# Altium schematic symbol library ov5640.SCHLIB: 14 symbols
Pins are listed as number, name and electrical type; pins without a type are passive.

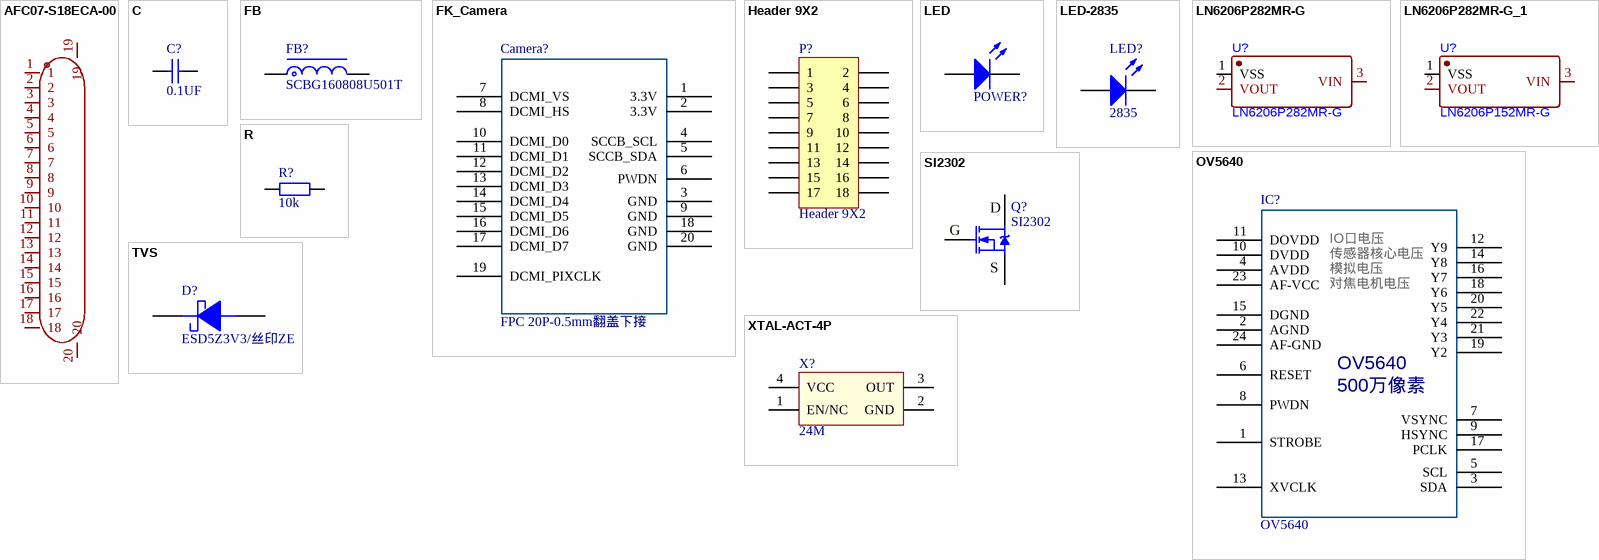
[diagram p0: symbols AFC07-S18ECA-00 to XTAL-ACT-4P]

## AFC07-S18ECA-00
designator X?  (value not drawn)
footprint FPC-SMD_AFC07-S18ECA-00
pins: 1, 2, 3, 4, 5, 6, 7, 8, 9, 10, 11, 12, 13, 14, 15, 16, 17, 18, 19, 20

## C
designator C?, comment 0.1UF
贴片电容/MLCC电容
footprint C0603_L (贴片MLCC电容)
pins: 1, 2

## FB
designator FB?, comment SCBG160808U501T
贴片磁珠
footprint FB0603 (0603贴片磁珠)
pins: 1, 2

## FK_Camera
designator Camera?, comment FPC 20P-0.5mm翻盖下接
footprint FPC20P-0.5MM
pins: 1 3.3V, 2 3.3V, 3 GND, 4 SCCB_SCL, 5 SCCB_SDA, 6 PWDN, 7 DCMI_VS, 8 DCMI_HS, 9 GND, 10 DCMI_D0, 11 DCMI_D1, 12 DCMI_D2, 13 DCMI_D3, 14 DCMI_D4, 15 DCMI_D5, 16 DCMI_D6, 17 DCMI_D7, 18 GND, 19 DCMI_PIXCLK, 20 GND

## Header 9X2
designator P?
Header, 9-Pin, Dual row
footprint HDR2X9 (Connector; Header; 9x2 Position)
pins: 1, 2, 3, 4, 5, 6, 7, 8, 9, 10, 11, 12, 13, 14, 15, 16, 17, 18

## LED
designator POWER?  (value not drawn)
footprint D0603
pins: 1 A, 2 K

## LED-2835
designator LED?, comment 2835
0.2W 功率LED
footprint LED 2835-2P
pins: 1 A, 2 K

## LN6206P282MR-G
designator U?
footprint SOT-23-3_L2.9-W1.3-P1.90-LS2.4-BR
pins: 1 VSS, 2 VOUT, 3 VIN

## LN6206P282MR-G_1
designator U?, comment LN6206P152MR-G
footprint SOT-23-3_L2.9-W1.3-P1.90-LS2.4-BR
pins: 1 VSS, 2 VOUT, 3 VIN

## OV5640
designator IC?
footprint OV2640
pins: 1 STROBE, 2 AGND, 3 SDA, 4 AVDD, 5 SCL, 6 RESET, 7 VSYNC, 8 PWDN, 9 HSYNC, 10 DVDD, 11 DOVDD, 12 Y9, 13 XVCLK, 14 Y8, 15 DGND, 16 Y7, 17 PCLK, 18 Y6, 19 Y2, 20 Y5, 21 Y3, 22 Y4, 23 AF-VCC, 24 AF-GND
text: IO口电压; 传感器核心电压; 模拟电压; 对焦电机电压; 500万像素

## R
designator R?, comment 10k
贴片电阻
footprint R0603_L (1/10W贴片电阻)
pins: 1, 2

## SI2302
designator Q?
N沟道 20V/3A
footprint SOT23-3N (3x1.3x1mm(长宽高))
pins: 1 G, 2 S, 3 D

## TVS
designator D?, comment ESD5Z3V3/丝印ZE
footprint SOD523
pins: 1 +, 2 -

## XTAL-ACT-4P
designator X?, comment 24M
4脚有源晶振(振荡器)
footprint OSC-3225-4P (3.2*2.5*0.7mm(长宽高))
pins: 1 EN/NC, 2 GND, 3 OUT, 4 VCC